# Altium footprint library TinyPICO.PcbLib: 1 footprints
Each footprint in its own frame and in the unit in brackets; x right, y up, seen from the top. Pads: shape width x height; smd on the part's side, far side on the other; paste and mask are expansions set on the pad; w line width, h text height; cw(c..) or ccw(c..) is an arc to the next point about the centre after c.
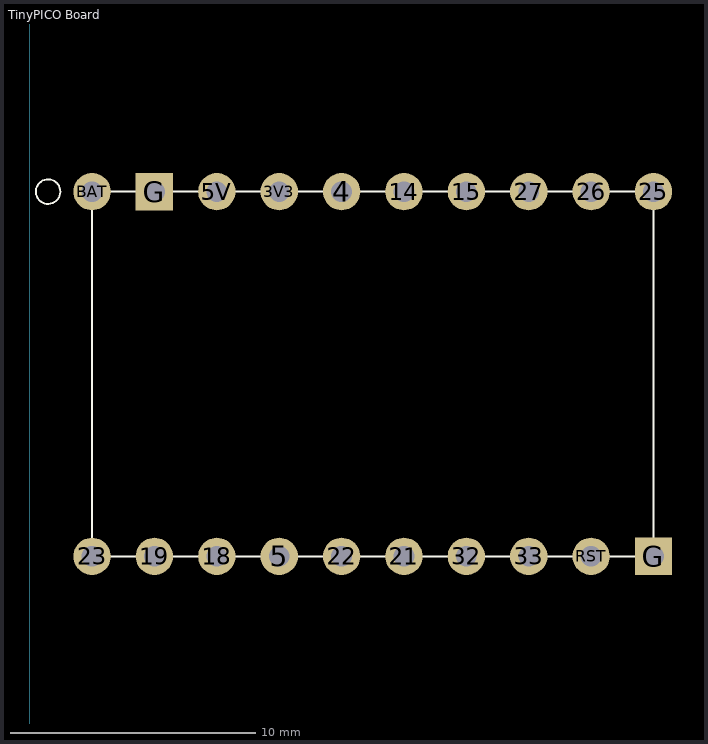
[diagram p0: the footprint, top view; thin cyan lines are the x and y axes]

## TinyPICO Board [mil]
height 172.44
pads (20):
  round 60 hole 33.23: 3V3(400,-300) 4(500,-300) 5(400,-884.65) 5V(300,-300) 14(600,-300) 15(700,-300) 18(300,-884.65) 19(200,-884.65) 21(600,-884.65) 22(500,-884.65) 25(1000,-300) 26(900,-300) 27(800,-300) 32(700,-884.65) 33(800,-884.65) RST(900,-884.65)
  round 60 hole 33.24: 23(100,-884.65) BAT(100,-300)
  rect 60x60 hole 33.23: G(200,-300) G(1000,-884.65)
Top Layer:
  lines w10: 984.65,-884.65 1000,-869.29
Top Overlay:
  circle w3.15: c29.53,-300 r19.68
  lines w3.15: 984.65,-884.65 100,-884.65 100,-300 1000,-300 1000,-869.29